# Altium footprint library Fuse.PcbLib: 12 footprints
Each footprint in its own frame and in the unit in brackets; x right, y up, seen from the top. Pads: shape width x height; smd on the part's side, far side on the other; paste and mask are expansions set on the pad; w line width, h text height; cw(c..) or ccw(c..) is an arc to the next point about the centre after c.
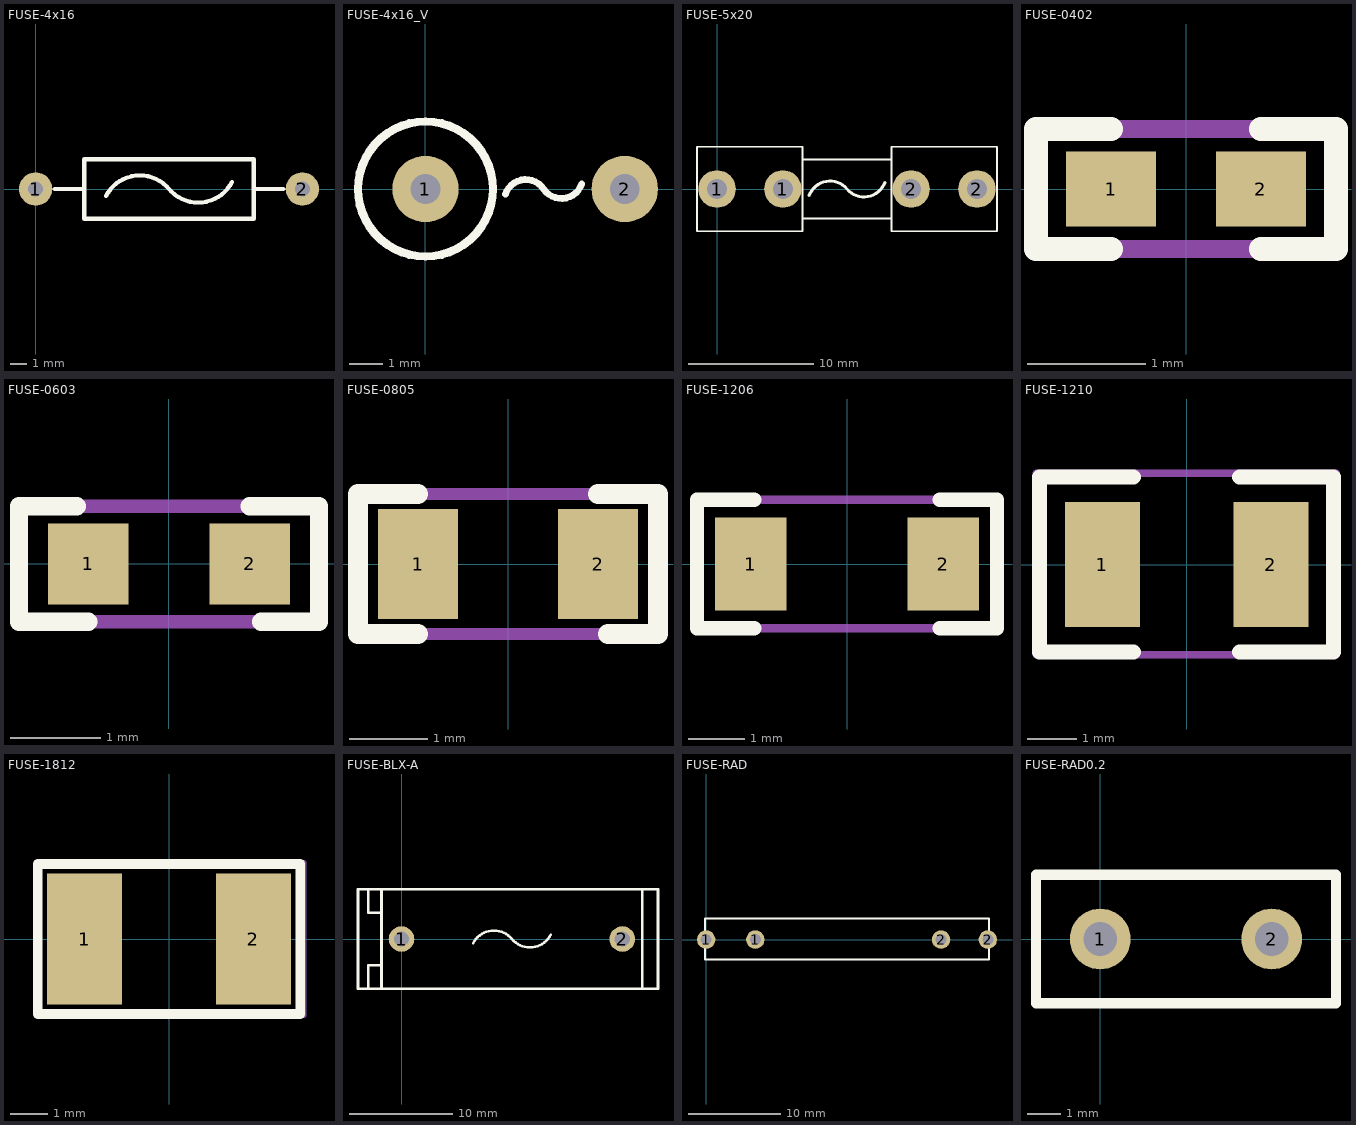
[diagram p0: the footprints below, top view; thin cyan lines are the x and y axes]

## FUSE-4x16 [mm]
pads (2):
  round 2 hole 0.9: 1(0,0) 2(16,0)
Top Overlay:
  lines w0.254: 1.142,0 2.92,0 ; 4.218,-0.419 cw(c6.249,-1.469) 8,0 ccw(c9.751,1.469) 11.782,0.419 ; 13.08,0 14.858,0 ; 2.92,-1.778 2.92,1.778 13.08,1.778 13.08,-1.778 2.92,-1.778
3D body "6.STEP": height 3.95, standoff -3.55, extent -0.426,-1.868 16.174,2.032

## FUSE-4x16_V [mm]
pads (2):
  round 2 hole 0.9: 1(0,0) 2(6,0)
Top Overlay:
  circle w0.254: c0,0 r2.032
  lines w0.203: 2.406,-0.156 cw(c3.019,-0.362) 3.556,0 ccw(c4.093,0.362) 4.706,0.156
3D body "m.STEP": height 13.1, standoff -3.5, extent -2.118,-2.032 6.182,1.968

## FUSE-5x20 [mm]
pads (4):
  round 3 hole 1.6: 1(0,0) 1(5.27,0) 2(15.53,0) 2(20.8,0)
Top Overlay:
  lines w0.15: 6.844,-2.35 13.956,-2.35 ; 6.844,2.35 13.956,2.35 ; -1.6,-3.38 -1.6,3.38 6.844,3.38 6.844,-3.38 -1.6,-3.38 ; 13.956,-3.38 13.956,3.38 22.4,3.38 22.4,-3.38 13.956,-3.38
  lines w0.254: 7.373,-0.52 cw(c9.038,-1.143) 10.4,0 ccw(c11.762,1.143) 13.427,0.52
3D body "n.STEP": height 9.77, standoff -3.6, extent -0.513,-3.175 21.087,3.125

## FUSE-0402 [mil]
pads (2):
  rect 30x25 smd: 1(-25,0) 2(25,0)
Top Overlay:
  lines w8: -25,-20 -50,-20 -50,20 -40,20 -25,20 ; 25,-20 50,-20 50,20 25,20
Mechanical 15:
  lines w6: -50,-20 -50,20 50,20 50,-20 -50,-20
  text "'.Designator'" at -85,-10 h30
3D body "12.STEP": height 14.57, standoff 0, extent -19.68,-10 19.68,10.47

## FUSE-0603 [mil]
pads (2):
  rect 35x35 smd: 1(-35,0) 2(35,0)
Top Overlay:
  lines w8: -40,25 -65,25 -65,-25 -35,-25 ; 35,25 65,25 65,-25 40,-25
Mechanical 15:
  lines w6: -65,-25 65,-25 65,25 -65,25 -65,-25
  text "'.Designator'" at -85,-10 h30
3D body "11.STEP": height 20.47, standoff 0, extent -27.99,-16.14 35,16.14

## FUSE-0805 [mil]
pads (2):
  rect 40x55 smd: 1(-45,0) 2(45,0)
Top Overlay:
  lines w10: -45,-35 -75,-35 -75,35 -45,35 ; 45,35 75,35 75,-35 50,-35
Mechanical 15:
  lines w6: -75,-35 -75,35 75,35 75,-35 -75,-35
  text "'.Designator'" at -115,-15 h40
3D body "10.STEP": height 20.47, standoff 0, extent -40,-24.02 38.74,24.02

## FUSE-1206 [mil]
pads (2):
  rect 50x65 smd: 1(-67.5,0) 2(67.5,0)
Top Overlay:
  lines w10: -65,-45 -105,-45 -105,45 -65,45 ; 65,-45 105,-45 105,45 65,45
Mechanical 15:
  lines w6: -105,-45 -105,45 105,45 105,-45 -105,-45
  text "'.Designator'" at -115,-15 h40
3D body "9.STEP": height 34.25, standoff 0, extent -65.49,-33.78 60.49,30

## FUSE-1210 [mil]
pads (2):
  rect 60x100 smd: 1(-67.5,0) 2(67.5,0)
Top Overlay:
  lines w12: -42.5,-70 -117.5,-70 -117.5,70 -42.5,70 ; 42.5,-70 117.5,-70 117.5,70 42.5,70
Mechanical 15:
  lines w6: -120.5,-72 -120.5,73 119.5,73 119.5,-72 -120.5,-72
  text "'.Designator'" at -115,-15 h40
3D body "Fuse1210.STEP": height 26.57, standoff 0, extent -57.78,-50.69 68.79,50.69

## FUSE-1812 [mm]
pads (2):
  rect 2x3.5 smd: 1(-2.25,0) 2(2.25,0)
Top Overlay:
  lines w0.254: -3.5,-2 3.5,-2 3.5,2 -3.5,2 -3.5,-2
Mechanical 15:
  lines w0.152: -3.52,-2.032 3.592,-2.032 3.592,2.032 -3.52,2.032 -3.52,-2.032
  text "'.Designator'" at -4.318,-0.635 h1.52
3D body "User Library-fuse1812.STEP": height 1.32, standoff 0, extent -2.41,-1.61 2.41,1.61

## FUSE-BLX-A [mm]
pads (2):
  round 2.5 hole 1.5: 1(0,0) 2(21.5,0)
Top Overlay:
  lines w0.254: -1.95,-4.826 -1.95,-2.54 ; -1.95,4.826 -1.95,2.54 ; 6.968,-0.419 cw(c8.999,-1.469) 10.75,0 ccw(c12.501,1.469) 14.532,0.419 ; 23.196,-4.826 24.974,-4.826 24.974,4.826 23.45,4.826 ; -3.22,-4.826 -3.22,-2.54 -1.95,-2.54 ; -3.22,-4.826 23.45,-4.826 23.45,4.826 ; -3.22,-4.826 -4.236,-4.826 -4.236,4.826 -3.22,4.826 ; -3.22,4.826 -3.22,2.54 -1.95,2.54 ; -3.22,4.826 23.45,4.826 ; -1.95,-2.54 -1.95,2.54
3D body "3.STEP": height 13.9, standoff -3.6, extent -4.261,-4.801 25.089,4.699

## FUSE-RAD [mm]
pads (4):
  round 2 hole 1.2: 1(0,0) 1(5.334,0) 2(25.527,0) 2(30.607,0)
Top Overlay:
  lines w0.254: -0.127,-2.159 -0.127,2.286 30.734,2.286 30.734,-2.159 -0.127,-2.159
3D body "SW3DPS-FUSE-DEFAULT.STEP": height 8.84, standoff -4.01, extent -0.127,-2.825 30.753,3.079

## FUSE-RAD0.2 [mm]
pads (2):
  round 1.8 hole 1: 1(0,0) 2(5.08,0)
Top Overlay:
  lines w0.305: -1.905,-1.905 -1.905,1.905 6.985,1.905 6.985,-1.905 -1.905,-1.905
3D body "FUSE-FRU110-30F.STEP": height 11, standoff -7.22, extent -1.16,-0.85 6.24,0.85